# Altium footprint library Passives.PcbLib: 18 footprints (part 1 of 2)
Each footprint in its own frame and in the unit in brackets; x right, y up, seen from the top. Pads: shape width x height; smd on the part's side, far side on the other; paste and mask are expansions set on the pad; w line width, h text height; cw(c..) or ccw(c..) is an arc to the next point about the centre after c.
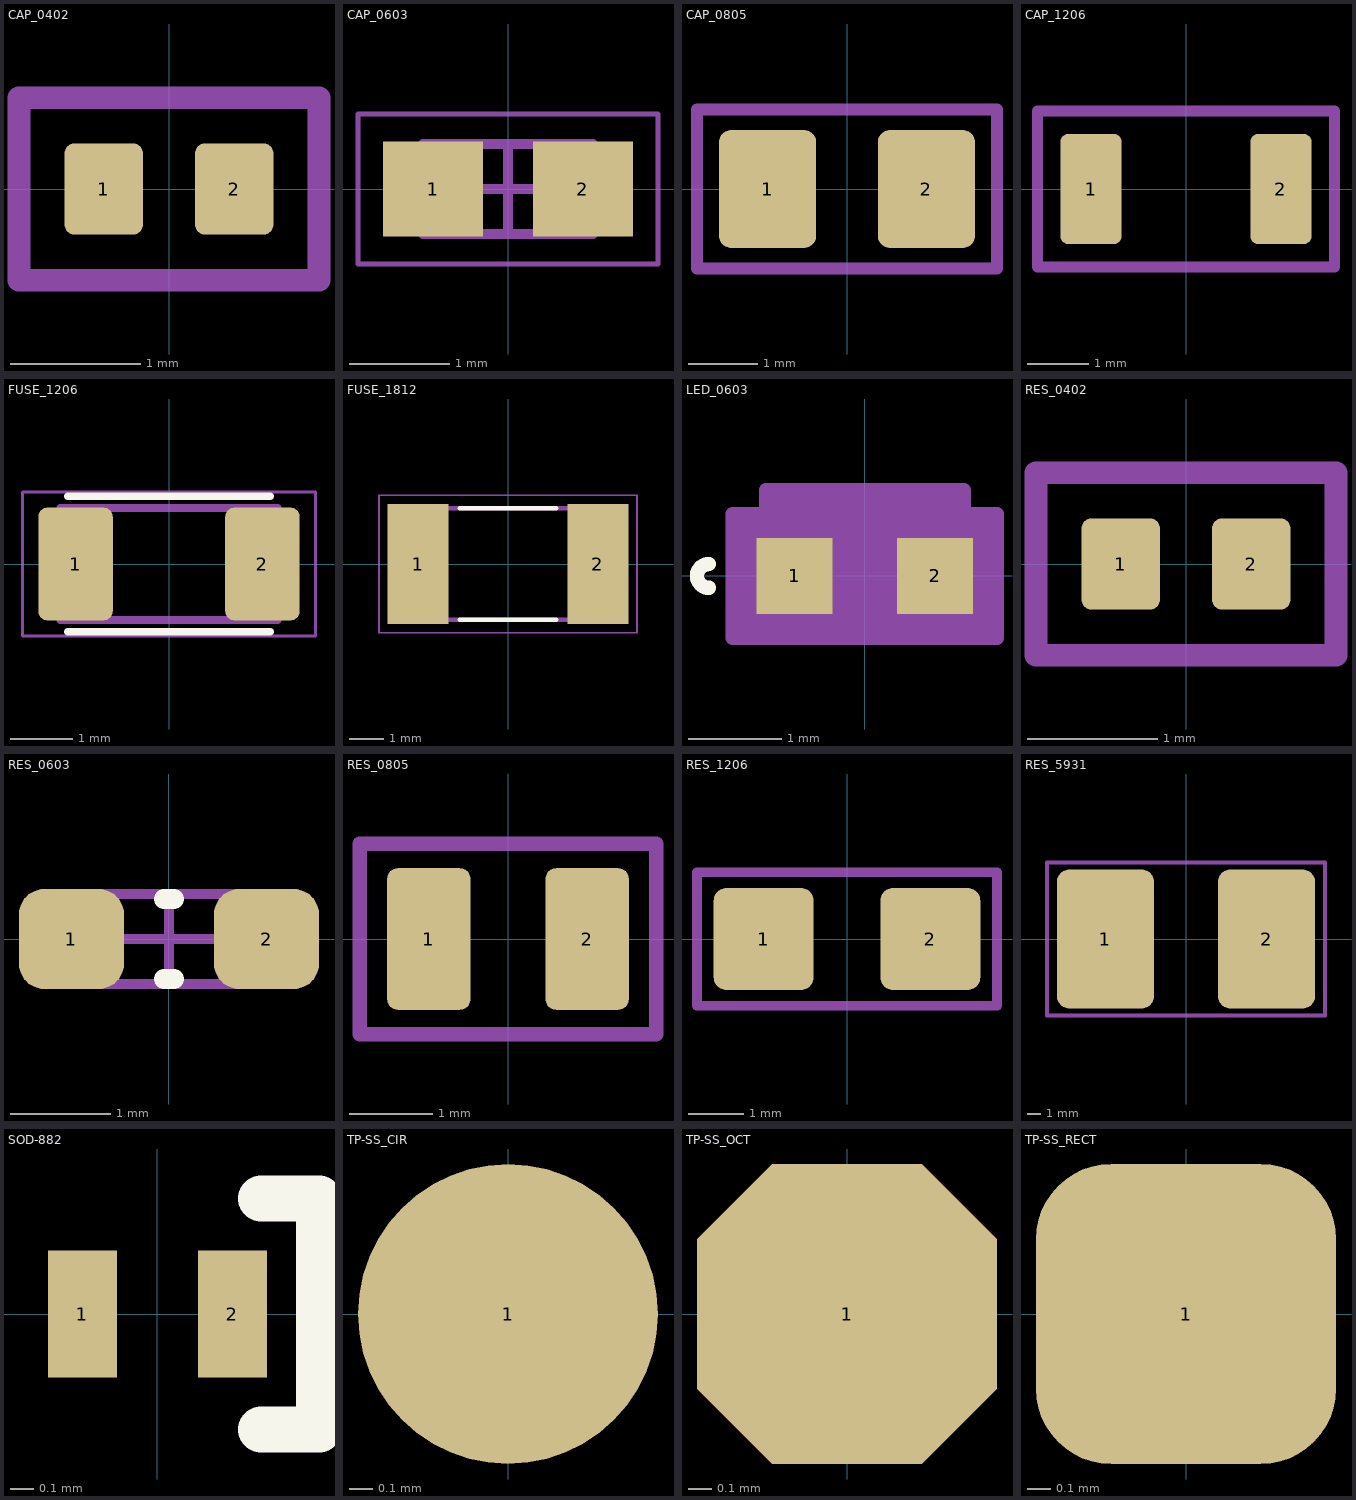
[diagram p0: the footprints below, top view; thin cyan lines are the x and y axes]

## CAP_0402 [mm]
pads (2):
  rrect25% 0.6x0.7 smd: 1(-0.5,0) 2(0.5,0)
Mechanical 13:
  lines w0.175: -1.15,-0.7 -1.15,0.7 1.15,0.7 1.15,-0.7 -1.15,-0.7
  text "'.Designator'" at -5.665,-0.29 h1
3D body "C0402.step": height 0.37, standoff 0.01, extent -0.5,-0.265 0.5,0.265

## CAP_0603 [mm]
height 0.9
pads (2):
  rect 1x0.95 smd: 1(-0.75,0) 2(0.75,0)
Mechanical 13:
  lines w0.1: -0.85,-0.45 -0.85,0.45 0.85,0.45 0.85,-0.45 -0.85,-0.45
Mechanical 15:
  lines w0.05: -1.5,-0.75 -1.5,0.75 1.5,0.75 1.5,-0.75 -1.5,-0.75
  lines w0.1: -0.45,0 0.45,0 ; 0,-0.45 0,0.45
3D body: height 0.9, standoff 0, extent -0.5,-0.45 0.5,0.45
3D body: height 0.9, standoff 0, extent -0.85,-0.45 -0.5,0.45
3D body: height 0.9, standoff 0, extent 0.5,-0.45 0.85,0.45

## CAP_0805 [mm]
pads (2):
  rrect25% 1.4x1.7 smd: 1(-1.143,0) 2(1.143,0)
Mechanical 13:
  lines w0.175: -2.159,-1.143 2.159,-1.143 2.159,1.143 -2.159,1.143 -2.159,-1.143
  text "'.Designator'" at -5.665,-0.417 h1
3D body "C0805.stp": height 1.01, standoff 0.01, extent -1.15,-0.762 1.15,0.788

## CAP_1206 [mm]
pads (2):
  rrect25% 1x1.8 smd: 1(-1.55,0) 2(1.55,0)
Mechanical 13:
  lines w0.175: -2.425,-1.275 -2.425,1.275 2.425,1.275 2.425,-1.275 -2.425,-1.275
  text "'.Designator'" at -5.665,-0.417 h1
3D body "C1206.step": height 0.94, standoff 0, extent -1.6,-0.8 1.6,0.8

## FUSE_1206 [mm]
pads (2):
  rrect25% 1.2x1.82 smd: 1(-1.505,0) 2(1.505,0)
Top Overlay:
  lines w0.127: -1.63,-1.09 1.63,-1.09 ; -1.63,1.09 1.63,1.09
Mechanical 13:
  lines w0.127: -1.75,-0.9 -1.75,0.9 1.75,0.9 1.75,-0.9 -1.75,-0.9
Mechanical 15:
  lines w0.05: -2.36,-1.16 -2.36,1.16 2.36,1.16 2.36,-1.16 -2.36,-1.16

## FUSE_1812 [mm]
height 0.9
pads (2):
  rect 1.78x3.5 smd paste+0 mask+0.102: 1(-2.615,0) 2(2.615,0)
Top Overlay:
  lines w0.127: -1.4,-1.62 1.4,-1.62 ; -1.4,1.62 1.4,1.62
Mechanical 13:
  lines w0.127: -2.275,-1.62 -2.275,1.62 2.275,1.62 2.275,-1.62 -2.275,-1.62
Mechanical 15:
  lines w0.05: -3.755,-2 3.755,-2 3.755,2 -3.755,2 -3.755,-2
3D body "step_temp.STEP": height 0.7, standoff 0, extent -2.275,-1.62 2.275,1.62

## LED_0603 [mil]
pads (2):
  rect 32x32 smd paste+0 mask+0: 1(-29.53,0) 2(29.53,0)
Top Overlay:
  lines w6: -65.53,-5 cw(c-65.53,0) -65.53,5
Mechanical 13:
  circle w0: c-13.53,0 r3
  lines w0: -12,16 ccw(c0,16) 12,16
  lines w1: -31.5,-16 -31.5,16 31.5,16 31.5,-16 -31.5,-16
Mechanical 15:
  region: -41.5,-26 -55.53,-26 -55.53,26 -41.5,26 -41.5,36 41.5,36 41.5,26 55.53,26 55.53,-26 41.5,-26
  lines w6: -55.53,-26 -41.5,-26 41.5,-26 55.53,-26 55.53,26 41.5,26 41.5,36 -41.5,36 -41.5,26 -55.53,26 -55.53,-26
3D body "LTST-C193TBKT-5A.STEP": height 13.78, standoff 0, extent -31.5,-15.75 31.5,15.75

## RES_0402 [mm]
pads (2):
  rrect25% 0.6x0.7 smd: 1(-0.5,0) 2(0.5,0)
Mechanical 13:
  lines w0.175: -1.15,-0.7 -1.15,0.7 1.15,0.7 1.15,-0.7 -1.15,-0.7
  text "'.Designator'" at -5.665,-0.417 h1
3D body "R0402.step": height 0.3, standoff 0, extent -0.5,-0.25 0.5,0.25

## RES_0603 [mm]
height 0.55
pads (2):
  rrect50% 1.05x1 smd: 1(-0.975,0) 2(0.975,0)
Top Overlay:
  lines w0.2: -0.05,-0.4 0.05,-0.4 ; -0.05,0.4 0.05,0.4
Mechanical 13:
  lines w0.1: -0.75,-0.45 0.75,-0.45 0.75,0.45 -0.75,0.45 -0.75,-0.45
Mechanical 15:
  lines w0.1: -0.45,0 0.45,0 ; 0,-0.45 0,0.45
3D body: height 0.55, standoff 0, extent -0.5,-0.45 0.5,0.45
3D body: height 0.55, standoff 0, extent 0.5,-0.45 0.75,0.45
3D body: height 0.55, standoff 0, extent -0.75,-0.45 -0.5,0.45

## RES_0805 [mm]
pads (2):
  rrect25% 1x1.7 smd: 1(-0.95,0) 2(0.95,0)
Mechanical 13:
  lines w0.175: -1.778,-1.143 -1.778,1.143 1.778,1.143 1.778,-1.143 -1.778,-1.143
  text "'.Designator'" at -5.665,-0.417 h1
3D body "R0805.step": height 0.47, standoff 0.01, extent -1,-0.63 1,0.63

## RES_1206 [mm]
pads (2):
  rrect25% 1.8x1.84 smd: 1(-1.5,0) 2(1.5,0)
Mechanical 13:
  lines w0.175: -2.7,-1.2 -2.7,1.2 2.7,1.2 2.7,-1.2 -2.7,-1.2
  text "'.Designator'" at -5.665,-0.417 h1
3D body "R1206.step": height 0.57, standoff 0.01, extent -1.6,-0.83 1.6,0.83

## RES_5931 [mm]
pads (2):
  rrect25% 7x10 smd: 1(-5.8,0) 2(5.8,0)
Mechanical 13:
  lines w0.3: -10,-5.5 10,-5.5 10,5.5 -10,5.5 -10,0.5 -10,-5.5
  text "'.Designator'" at -5.815,-0.9 h1
3D body "WSLP5931.stp": height 1.92, standoff 0, extent -7.5,-3.875 7.5,3.875

## SOD-882 [mm]
pads (2):
  rect 0.3x0.55 smd: 1(-0.325,0) 2(0.325,0)
Top Overlay:
  lines w0.2: 0.45,-0.5 0.7,-0.5 0.7,0.5 0.45,0.5
3D body "SOD882.step": height 0.48, standoff -0.03, extent -0.493,-0.292 0.493,0.292

## TP-SS_CIR [mm] "Circular Exposed Pad 1.27mm Test Point Single Side"
pads (1):
  round 1.27 smd: 1(0,0)

## TP-SS_OCT [mm] "Octogon Exposed Pad 1.27mm Test Point Single Side"
pads (1):
  oct 1.27x1.27 smd: 1(0,0)
Top Layer:
  region: -0.318,-0.635 -0.635,-0.318 -0.635,0.318 -0.318,0.635 0.318,0.635 0.635,0.318 0.635,-0.318 0.318,-0.635

## TP-SS_RECT [mm] "Circular Exposed Pad 1.27mm Test Point Single Side"
pads (1):
  rrect50% 1.27x1.27 smd: 1(0,0)